# EAGLE library part ARDUINO-UNO-SHEILD (library Header and Connector)
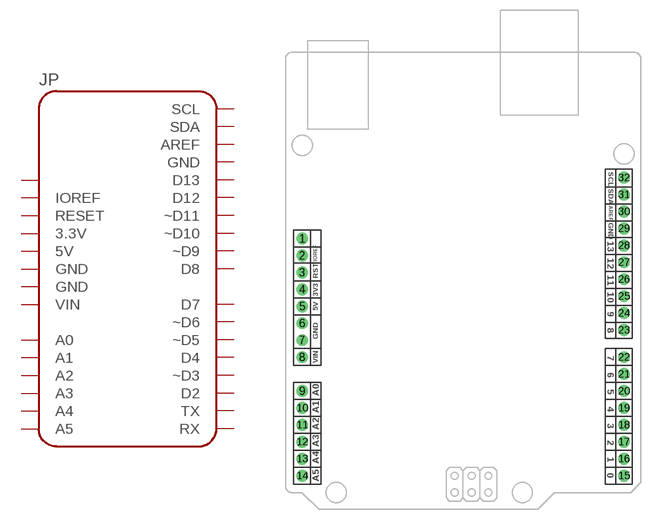
[diagram p16: symbol with the pads of ARDUINO-UNO-SHIELD; footprint ARDUINO-UNO-SHIELD]

Designator prefix JP

## ARDUINO-UNO-SHEILD_(UNO) (DESC: Arduino Uno R3 Shield)  [ARDUINO-UNO-SHIELD]
1
2  IOREF
3  RESET
4  3.3V
5  5V
6  GND
7  GND
8  VIN
9  A0
10  A1
11  A2
12  A3
13  A4
14  A5
15  RX
16  TX
17  D2
18  ~D3
19  D4
20  ~D5
21  ~D6
22  D7
23  D8
24  ~D9
25  ~D10
26  ~D11
27  D12
28  D13
29  GND
30  AREF
31  SDA
32  SCL

## Footprint ARDUINO-UNO-SHIELD (pad centres in mm)
Arduino Uno R3 Compatible Board Layout Size: 68.58 x 53.34 mm
drill 1.016 pad 1.778: 1 2.54,40.64; 2 2.54,38.1; 3 2.54,35.56; 4 2.54,33.02; 5 2.54,30.48; 6 2.54,27.94; 7 2.54,25.4; 8 2.54,22.86; 9 2.54,17.78; 10 2.54,15.24; 11 2.54,12.7; 12 2.54,10.16; 13 2.54,7.62; 14 2.54,5.08; 15 50.8,5.08; 16 50.8,7.62; 17 50.8,10.16; 18 50.8,12.7; 19 50.8,15.24; 20 50.8,17.78; 21 50.8,20.32; 22 50.8,22.86; 23 50.8,26.924; 24 50.8,29.464; 25 50.8,32.004; 26 50.8,34.544; 27 50.8,37.084; 28 50.8,39.624; 29 50.8,42.164; 30 50.8,44.704; 31 50.8,47.244; 32 50.8,49.784